# Altium footprint library Switches.PcbLib: 2 footprints
Each footprint in its own frame and in the unit in brackets; x right, y up, seen from the top. Pads: shape width x height; smd on the part's side, far side on the other; paste and mask are expansions set on the pad; w line width, h text height; cw(c..) or ccw(c..) is an arc to the next point about the centre after c.
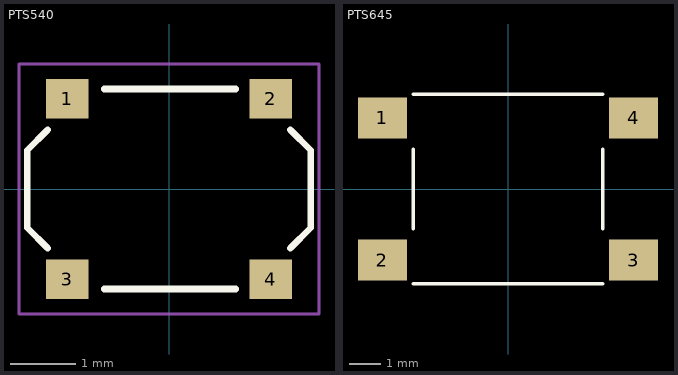
[diagram p0: the footprints below, top view; thin cyan lines are the x and y axes]

## PTS540 [mm]
height 0.35
pads (4):
  rect 0.65x0.6 smd: 1(-1.55,1.375) 2(1.55,1.375) 3(-1.55,-1.375) 4(1.55,-1.375)
Top Overlay:
  lines w0.1: -1.85,-0.9 -2.159,-0.591 -2.159,0.591 -1.85,0.9 ; -0.984,-1.524 1.016,-1.524 ; -0.984,1.524 1.016,1.524 ; 1.85,-0.9 2.159,-0.591 2.159,0.591 1.85,0.9
Mechanical 15:
  lines w0.05: -2.286,-1.905 -2.286,1.905 2.286,1.905 2.286,-1.905 -2.286,-1.905

## PTS645 [mm]
height 4.3
pads (4):
  rect 1.55x1.3 smd: 1(-3.975,2.25) 2(-3.975,-2.25) 3(3.975,-2.25) 4(3.975,2.25)
Top Overlay:
  lines w0.1: -3,-3 3,-3 ; -3,-1.27 -3,1.27 ; -3,3 3,3 ; 3,-1.27 3,1.27